# EAGLE library part MAX30100 (library MAX30100)
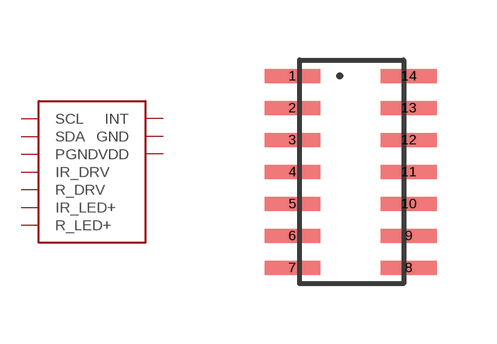
[diagram p0: symbol with the pads of MAX30100; footprint MAX30100]

Designator prefix -

## MAX30100  [MAX30100]
2  SCL
3  SDA
4  PGND
5  IR_DRV
6  R_DRV
9  R_LED+
10  IR_LED+
11  VDD
12  GND
13  INT

## Footprint MAX30100 (pad centres in mm)
smd 1.397 x 0.35: 1 -0.381,4.8; 2 -0.381,4; 3 -0.381,3.2; 4 -0.381,2.4; 5 -0.381,1.6; 6 -0.381,0.8; 7 -0.381,0; 8 2.531,0; 9 2.531,0.8; 10 2.531,1.6; 11 2.531,2.4; 12 2.531,3.2; 13 2.531,4; 14 2.531,4.8